# Altium schematic symbol library SMD_Resistor_Series_SCH_Library_ARAF.SchLib: 4 symbols
Pins are listed as number, name and electrical type; pins without a type are passive.

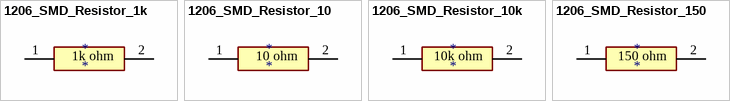
[diagram p0: symbols 1206_SMD_Resistor_1k to 1206_SMD_Resistor_150]

## 1206_SMD_Resistor_1k
designator *
footprint 1206_SMD_RESISTOR_1k (Chip Resistor, 2-Leads, Body 4.50x1.75mm, IPC Medium Density)
pins: 1, 2
text: 1k ohm

## 1206_SMD_Resistor_10
designator *
footprint 1206_SMD_RESISTOR_10 (Chip Resistor, 2-Leads, Body 4.50x1.75mm, IPC Medium Density)
pins: 1, 2
text: 10 ohm

## 1206_SMD_Resistor_10k
designator *
footprint 1206_SMD_RESISTOR_10k (Chip Resistor, 2-Leads, Body 4.50x1.75mm, IPC Medium Density)
pins: 1, 2
text: 10k ohm

## 1206_SMD_Resistor_150
designator *
footprint 1206_SMD_RESISTOR_150 (Chip Resistor, 2-Leads, Body 4.50x1.75mm, IPC Medium Density)
pins: 1, 2
text: 150 ohm